# EAGLE library part CON_EDGE22 (library Traficon)
22pins edge card connector Manufacturer: EDAC Type nr: 306-022-520-102 CT: Added short variant, so that no drill data lies outside of the PCB-outline.
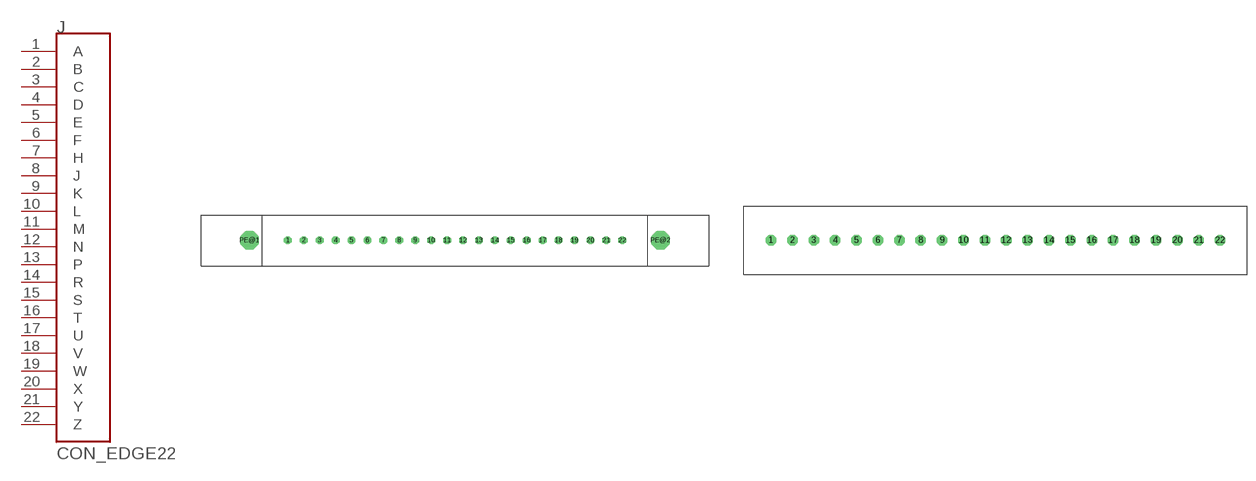
[diagram p222: symbol with the pads of CON_EDGE22; footprints CON_EDGE22, CON_EDGE22_SHORT]

Designator prefix J

## CON_EDGE22L  [CON_EDGE22]
1  A
2  B
3  C
4  D
5  E
6  F
7  H
8  J
9  K
10  L
11  M
12  N
13  P
14  R
15  S
16  T
17  U
18  V
19  W
20  X
21  Y
22  Z

## CON_EDGE22S  [CON_EDGE22_SHORT]
Pads as for CON_EDGE22

## Footprint CON_EDGE22 (pad centres in mm)
EDAC 306-022-520-102 Checked by CT on 24/02/2009.
drill 1.3 octagon: 1 -41.605,0; 2 -37.643,0; 3 -33.68,0; 4 -29.718,0; 5 -25.756,0; 6 -21.793,0; 7 -17.831,0; 8 -13.868,0; 9 -9.906,0; 10 -5.944,0; 11 -1.981,0; 12 1.981,0; 13 5.944,0; 14 9.906,0; 15 13.868,0; 16 17.831,0; 17 21.793,0; 18 25.756,0; 19 29.718,0; 20 33.68,0; 21 37.643,0; 22 41.605,0
drill 3.556 octagon: PE@1 -51.13,0; PE@2 51.105,0

## Footprint CON_EDGE22_SHORT (pad centres in mm)
drill 1.3 octagon: 1 -41.605,0; 2 -37.643,0; 3 -33.68,0; 4 -29.718,0; 5 -25.756,0; 6 -21.793,0; 7 -17.831,0; 8 -13.868,0; 9 -9.906,0; 10 -5.944,0; 11 -1.981,0; 12 1.981,0; 13 5.944,0; 14 9.906,0; 15 13.868,0; 16 17.831,0; 17 21.793,0; 18 25.756,0; 19 29.718,0; 20 33.68,0; 21 37.643,0; 22 41.605,0